# Altium footprint library cy.PcbLib: 99 footprints (part 6 of 7)
Each footprint in its own frame and in the unit in brackets; x right, y up, seen from the top. Pads: shape width x height; smd on the part's side, far side on the other; paste and mask are expansions set on the pad; w line width, h text height; cw(c..) or ccw(c..) is an arc to the next point about the centre after c.
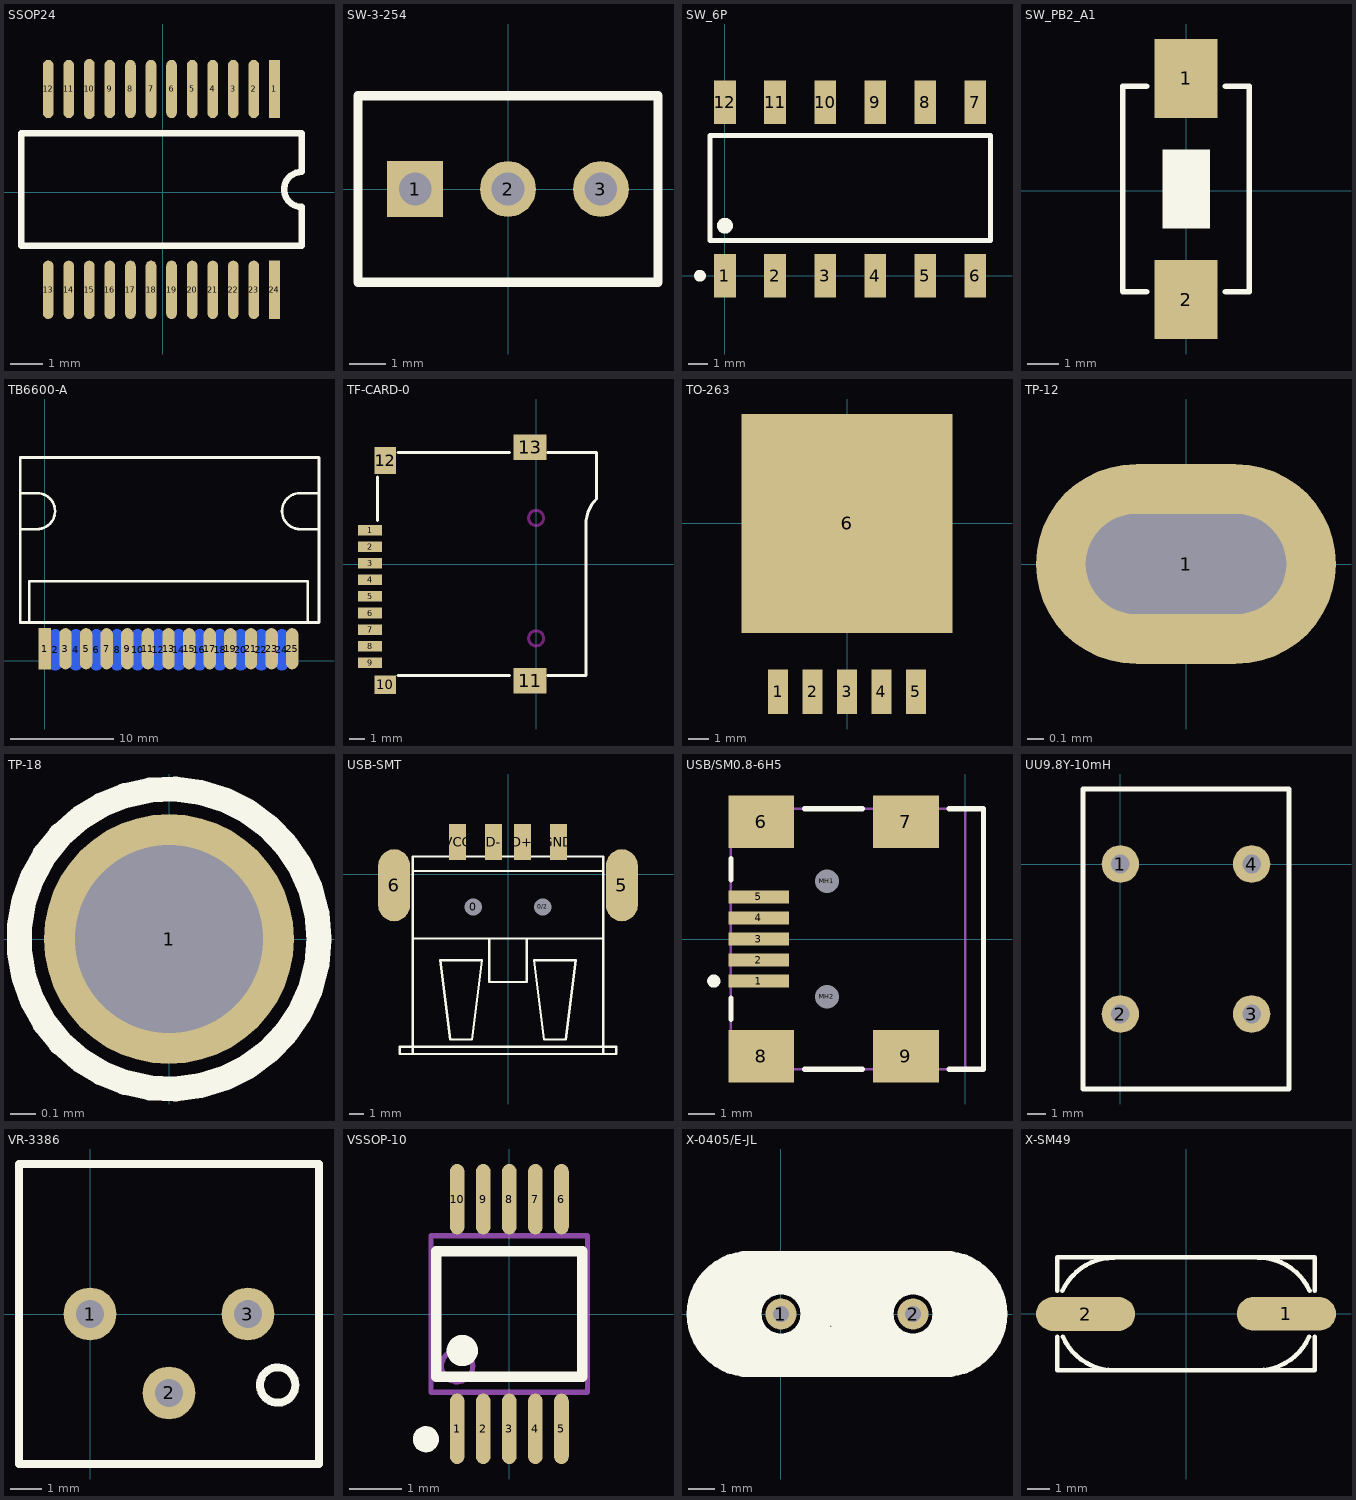
[diagram p5: the footprints below, top view; thin cyan lines are the x and y axes]

## SSOP24 [mm]
pads (24):
  rect 0.33x1.8 smd: 1(3.446,3.186) 24(3.446,-3.014)
  oval 0.33x1.8 smd: 2(2.811,3.186) 3(2.176,3.186) 4(1.541,3.186) 5(0.906,3.186) 6(0.271,3.186) 7(-0.364,3.186) 8(-0.999,3.186) 9(-1.634,3.186) 11(-2.904,3.186) 12(-3.539,3.186) 13(-3.539,-3.014) 14(-2.904,-3.014) 15(-2.269,-3.014) 16(-1.634,-3.014) 17(-0.999,-3.014) 18(-0.364,-3.014) 19(0.271,-3.014) 20(0.906,-3.014) 21(1.541,-3.014) 22(2.176,-3.014) 23(2.811,-3.014)
  oval 0.33x1.85 smd: 10(-2.269,3.186)
Top Overlay:
  lines w0.2: -4.376,-1.652 -4.376,1.825 4.284,1.825 4.284,0.625 ccw(c4.283,0.086) 4.284,-0.452 4.284,-1.652 -4.376,-1.652

## SW-3-254 [mil]
pads (3):
  rect 60x60 hole 35: 1(-100,0)
  round 60 hole 35: 2(0,0) 3(100,0)
Top Overlay:
  lines w10: -161.42,-100.39 161.42,-100.39 161.42,100.39 -161.42,100.39 -161.42,-100.39

## SW_6P [mm]
pads (12):
  rect 1.1x2.2 smd: 1(0,0) 2(2.54,0) 3(5.08,0) 4(7.62,0) 5(10.16,0) 6(12.7,0) 7(12.7,8.8) 8(10.16,8.8) 9(7.62,8.8) 10(5.08,8.8) 11(2.54,8.8) 12(0,8.8)
Top Overlay:
  circle w0.4: c0,2.54 r0.2
  circle w0.3: c-1.27,0 r0.15
  lines w0.254: -0.762,1.778 13.462,1.778 13.462,7.112 -0.762,7.112 -0.762,1.778

## SW_PB2_A1 [mm]
pads (2):
  rect 2x2.5 smd: 1(0,3.556) 2(0,-3.444)
Top Overlay:
  region: -0.747,1.309 -0.747,-1.191 0.753,-1.191 0.753,1.309
  lines w0.178: -1.25,-3.194 -2,-3.19 -2,3.306 -1.25,3.306 ; 1.25,-3.194 2,-3.194 2,3.306 1.25,3.306
3D body: height 1.2, standoff 0.8, extent -0.762,-1.143 0.762,1.27
3D body: height 0.8, standoff 0, extent -2.032,-3.175 2.032,3.302

## TB6600-A [mm]
pads (25):
  rect 1.2x4 smd: 1(0,1.143)
  oval 1.2x4 smd far side: 2(1,1.043) 4(3,1.043) 6(5,1.043) 8(7,1.043) 10(9,1.043) 12(11,1.043) 14(13,1.043) 16(15,1.043) 18(17,1.043) 20(19,1.043) 22(21,1.043) 24(23,1.043)
  oval 1.2x4 smd: 3(2,1.143) 5(4,1.143) 7(6,1.143) 9(8,1.143) 11(10,1.143) 13(12,1.143) 15(14,1.143) 17(16,1.143) 19(18,1.143) 21(20,1.143) 23(22,1.143) 25(24,1.143)
Top Overlay:
  lines w0.254: -2.4,8.2 -2.4,3.7 ; -2.397,12.754 -0.76,12.754 ccw(c-0.76,14.504) -0.76,16.254 -2.335,16.254 ; -1.5,3.7 -1.5,7.696 25.5,7.696 25.5,3.7 ; 26.592,16.254 24.763,16.254 ccw(c24.763,14.504) 24.763,12.754 26.597,12.754 ; 26.6,8.2 26.6,3.7 ; -2.4,3.7 -2.4,19.7 26.6,19.7 26.6,3.7 ; -2.4,3.7 26.6,3.7

## TF-CARD-0 [mm] "TF卡"
height 1.5
pads (13):
  rect 1.6x0.7 smd: 1(-11.008,2.25) 2(-11.008,1.15) 3(-11.008,0.05) 4(-11.008,-1.05) 5(-11.008,-2.15) 6(-11.008,-3.25) 7(-11.008,-4.35) 8(-11.008,-5.45) 9(-11.008,-6.55)
  rect 1.4x1.2 smd: 10(-10,-8.004)
  rect 2.2x1.7 smd: 11(-0.4,-7.75) 13(-0.4,7.75)
  rect 1.4x1.8 smd: 12(-10,6.85)
Top Overlay:
  lines w0.2: -10.5,2.88 -10.5,5.756 ; -9.144,-7.4 -1.778,-7.4 ; -9.144,7.4 -1.778,7.4 ; 0.762,-7.4 3.3,-7.4 3.3,1.016 ; 0.762,7.4 4,7.4 4,4.318 ccw(c5.69,2.628) 3.3,2.628 3.3,0.762
Keep-Out Layer:
  circle w0.2: c0,3.05 r0.5
  circle w0.2: c0,-4.93 r0.5

## TO-263 [mm]
pads (6):
  rect 1x2.2 smd: 1(-3.4,-8.3) 2(-1.7,-8.3) 3(0,-8.3) 4(1.7,-8.3) 5(3.4,-8.3)
  rect 10.4x10.8 smd: 6(0,0)

## TP-12 [mm]
pads (1):
  oval 1.8x1.2 hole 0.6 slot 1.2 at 0 deg: 1(0,0)
Top Overlay:
  circle w0.1: c0,0 r0.5

## TP-18 [mm]
pads (1):
  round 1 / inner round 0.85 / far side round 0.85 hole 0.75: 1(0,0)
Top Overlay:
  circle w0.1: c0,0 r0.6

## USB-SMT [mm]
pads (8):
  round 1 hole 1.2 unplated: 0(-2.4,-2.25) 0/2(2.4,-2.25)
  oval 2.2x5 smd: 5(7.9,-0.75) 6(-7.9,-0.75)
  rect 1.2x2.5 smd: D+(1,2.25) D-(-1,2.25) GND(3.5,2.25) VCC(-3.5,2.25)
Top Overlay:
  lines w0.15: -6.6,-12.45 -6.6,0.25 -6.6,1.25 -6.5,1.25 6.5,1.25 6.6,1.25 6.6,0.25 6.6,-12.45 ; -6.5,-4.45 6.5,-4.45 ; -6.5,0.25 6.5,0.25 ; -1.3,-4.45 -1.3,-7.45 1.3,-7.45 1.3,-4.45 ; -7.5,-12.45 -6.5,-12.45 6.5,-12.45 7.5,-12.45 7.5,-11.95 6.5,-11.95 -6.5,-11.95 -7.5,-11.95 -7.5,-12.45 ; -4.7,-5.95 -4,-11.45 -2.5,-11.45 -1.8,-5.95 -4.7,-5.95 ; 1.8,-5.95 2.5,-11.45 4,-11.45 4.7,-5.95 1.8,-5.95

## USB/SM0.8-6H5 [mm] "Connector; USB2.0, Type B, SM; 5 Position; Right Angle"
height 3.9
pads (11):
  rect 2.3x0.5 smd: 1(-7.85,-1.6) 2(-7.85,-0.8) 3(-7.85,0) 4(-7.85,0.8) 5(-7.85,1.6)
  rect 2.5x2 smd: 6(-7.75,4.45) 7(-2.25,4.45) 8(-7.75,-4.45) 9(-2.25,-4.45)
  round 0.6 hole 0.9 unplated: MH1(-5.25,2.2) MH2(-5.25,-2.2)
Top Overlay:
  circle w0.25: c-9.55,-1.6 r0.125
  lines w0.2: -8.9,-3.05 -8.9,-2.25 ; -8.9,2.25 -8.9,3.05 ; -6.1,-4.95 -3.9,-4.95 ; -6.1,4.95 -3.9,4.95 ; -0.6,-4.95 0.7,-4.95 0.7,4.95 -0.6,4.95
Mechanical 1:
  lines w0.1: 0,-4.95 0,4.95
  text "PCB Edge" at 0.432,-4.036 h0.25
Mechanical 13:
  lines w0.1: -8.9,-4.95 -8.9,4.95 0.7,4.95 0.7,-4.95 -8.9,-4.95
3D body: height 3.9, standoff 0, extent -8.9,-4.95 0.7,4.95

## UU9.8Y-10mH [mm]
pads (4):
  round 2 hole 1: 1(0,0) 2(0,-8) 3(7,-8) 4(7,0)
Top Overlay:
  lines w0.254: -2,-12 9,-12 9,4 -2,4 -2,-12

## VR-3386 [mm]
pads (3):
  round 1.7 hole 0.9: 1(0,0) 2(2.54,-2.54) 3(5.08,0)
Top Overlay:
  circle w0.254: c6.036,-2.286 r0.568
  lines w0.254: -2.286,-4.826 7.366,-4.826 7.366,-3.302 7.366,-0.762 7.366,1.016 7.366,4.826 -2.286,4.826 -2.286,1.016 -2.286,-0.508 -2.286,-3.302 -2.286,-4.826

## VSSOP-10 [mm]
pads (10):
  oval 0.28x1.35 smd mask+0.051: 1(-1,-2.2) 2(-0.5,-2.2) 3(0,-2.2) 4(0.5,-2.2) 5(1,-2.2) 6(1,2.2) 7(0.5,2.2) 8(0,2.2) 9(-0.5,2.2) 10(-1,2.2)
Top Overlay:
  circle w0.35: c-0.9,-0.7 r0.125
  circle w0.25: c-1.6,-2.4 r0.125
  lines w0.2: -1.4,-1.2 1.4,-1.2 1.4,1.2 -1.4,1.2 -1.4,-1.2
Mechanical 13:
  circle w0.1: c-1,-1 r0.3
  lines w0.1: -1.5,-1.5 1.5,-1.5 1.5,1.5 -1.5,1.5 -1.5,-1.5

## X-0405/E-JL [mm]
height 5
pads (2):
  round 1.2 hole 0.6: 1(0,0) 2(5.08,0)
Top Overlay:
  circle w1.2: c5.08,0 r1.35
  circle w1.2: c0,0 r1.35
  lines w0.8: -1.77,-1.44 1.64,-1.44 ; -1.74,1.32 2.17,1.32 ; -1.61,-1.67 -1.61,1.43 ; 1.29,-1.81 1.29,1.72 ; 3.08,1.33 7.16,1.33 ; 3.2,-1.35 7.29,-1.35 ; 3.85,-1.66 3.85,1.69 ; 6.32,-1.81 6.32,1.71 ; -3.1,0.1 -2.8,-1.1 -2.4,-1.5 -1.7,1.7 -2.6,1.2 -3.1,0.1 ; -2.92,0.13 -2.62,-0.87 -1.92,-1.67 -1.32,-1.77 -1.42,1.93 -2.62,1.03 -2.92,0.13 ; -2.8,-0.2 -2.3,0 -2.2,0.4 -1.9,-0.9 -2.1,-0.7 -2,-1.7 -2.6,-1.1 -2.8,-0.2 ; -1.2,-2.032 cw(c-1.2,0) -1.2,2.032 6.28,2.032 cw(c6.28,0) 6.28,-2.032 -1.2,-2.032 ; 0.8,-1.8 0.8,-1.7 1.3,-1.8 0.8,-1.8 ; 1.1,1.8 4.2,-1.8 1.4,-1.6 3.5,-1.2 1.9,-0.9 3.1,-0.5 2.1,-0.1 3.1,0.3 2.1,0.6 3.3,1.1 1.7,1.4 4.2,1.8 1.1,1.8 ; 6.21,-1.7 6.31,1.7 7.51,1.2 8.11,0.2 7.51,-1.1 6.21,-1.7 ; 6.8,-1 6.8,1.1 7.4,-0.2 6.8,-1 ; 6.9,-1.7 8.1,-0.2 7.7,-1.2 6.9,-1.7

## X-SM49 [mm]
height 14.8
pads (2):
  oval 4.4x1.5 smd: 1(4.45,0.004) 2(-4.45,-0.004)
Top Overlay:
  lines w0.2: -5.7,-2.499 5.718,-2.499 ; -5.7,-2.496 -5.7,-1.016 ; -5.7,1.016 -5.7,2.504 5.718,2.504 5.718,1.016 ; -5.477,1.023 cw(c-3.202,-0.013) -3.175,2.487 ; -5.461,-1.016 ccw(c-3.176,-0.001) -3.176,-2.501 ; 3.175,-2.5 ccw(c3.175,0) 5.46,-1.015 ; 3.175,2.496 cw(c3.202,-0.004) 5.48,1.025 ; 5.718,-2.496 5.718,-1.016